# EAGLE library part MMDT2222A-7-F (library MMDT2222A-7-F)
DUAL NPN SMALL SIGNAL SURFACE MOUNT TRANSISTOR
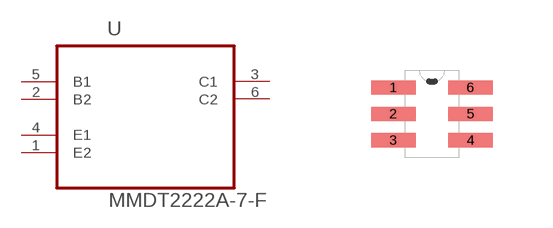
[diagram p0: symbol with the pads of SOT65P210X110-6N; footprint SOT65P210X110-6N]

Designator prefix U

## MMDT2222A-7-F (Availability: Unavailable; Description: Transistor General Purpose BJT NPN 40 Volt 0.6 Amp 6-Pin SOT-363 Tape And Reel; MF: Diodes Inc.; MP: MMDT2222A-7-F; Package: SOT-363 Diodes Inc.; Price: None)  [SOT65P210X110-6N]
1  E2  pas
2  B2  pas
3  C1  pas
4  E1  pas
5  B1  pas
6  C2  pas

## Footprint SOT65P210X110-6N (pad centres in mm)
smd 1.118 x 0.356: 1 -0.965,0.66; 2 -0.965,0; 3 -0.965,-0.66; 4 0.965,-0.66; 5 0.965,0; 6 0.965,0.66